# Altium schematic symbol library Connectors-USB.SchLib: 3 symbols
Pins are listed as number, name and electrical type; pins without a type are passive.

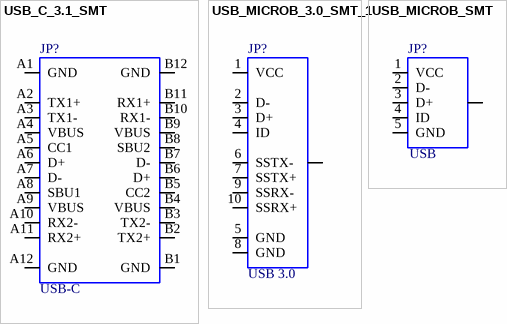
[diagram p0: symbols USB_C_3.1_SMT to USB_MICROB_SMT]

## USB_C_3.1_SMT
designator JP?, comment USB-C
PartNumber: 12401610E4#2A; Manufacturer: Amphenol FCI; Mounting Technology: Surface Mount; PackageReference: USB 3.1 - Type C
footprint USB-C-3.1
pins: A1 GND (power), A2 TX1+, A3 TX1-, A4 VBUS (power), A5 CC1, A6 D+, A7 D-, A8 SBU1, A9 VBUS (power), A10 RX2-, A11 RX2+, A12 GND (power), B1 GND (power), B2 TX2+, B3 TX2-, B4 VBUS (power), B5 CC2, B6 D+, B7 D-, B8 SBU2, B9 VBUS (power), B10 RX1-, B11 RX1+, B12 GND (power)

## USB_MICROB_3.0_SMT_1
designator JP?, comment USB 3.0
PartNumber: GSB343133HR; Manufacturer: Amphenol FCI; Mounting Technology: Surface Mount; PackageReference: USB 3.0 - Micro B
footprint USB-MICROB-3.0
pins: 1 VCC (power), 2 D-, 3 D+, 4 ID, 5 GND (power), 6 SSTX-, 7 SSTX+, 8 GND (power), 9 SSRX- (power), 10 SSRX+ (power), 11 SHIELD

## USB_MICROB_SMT
designator JP?, comment USB
PartNumber: 10118192-0001LF; Manufacturer: Amphenol FCI; Mounting Technology: Surface Mount; PackageReference: USB - Micro B
footprint USB-MICROB; pin to pad 1>VBUS 2>D- 3>D+ 4>ID 5>GND 6>MT1+P$1+P$2+MT2
pins: 1 VCC, 2 D-, 3 D+, 4 ID, 5 GND, 6 SHIELD